# EAGLE library part TPS2112A (library texas-instruments)
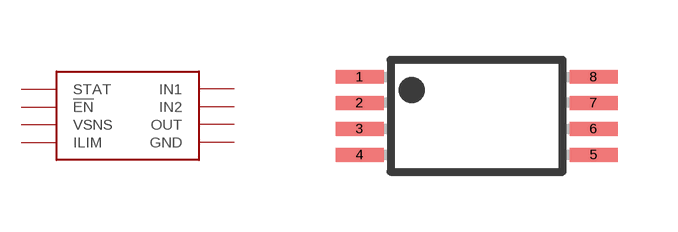
[diagram p4: symbol with the pads of TSSOP8; footprint TSSOP8]

Designator prefix -

## TPS2112A  [TSSOP8]
1  STAT  out
2  !EN  in
3  VSNS  in
4  ILIM  in
5  GND  pwr
6  IN2  pwr
7  OUT
8  IN1  pwr

## Footprint TSSOP8 (pad centres in mm)
Plastic Small Outline
smd 1.2 x 0.35: 1 -2.925,0.975; 2 -2.925,0.325; 3 -2.925,-0.325; 4 -2.925,-0.975; 5 2.925,-0.975; 6 2.925,-0.325; 7 2.925,0.325; 8 2.925,0.975